# Altium schematic symbol library RP2040_Schematic.SchLib: 12 symbols
Pins are listed as number, name and electrical type; pins without a type are passive.

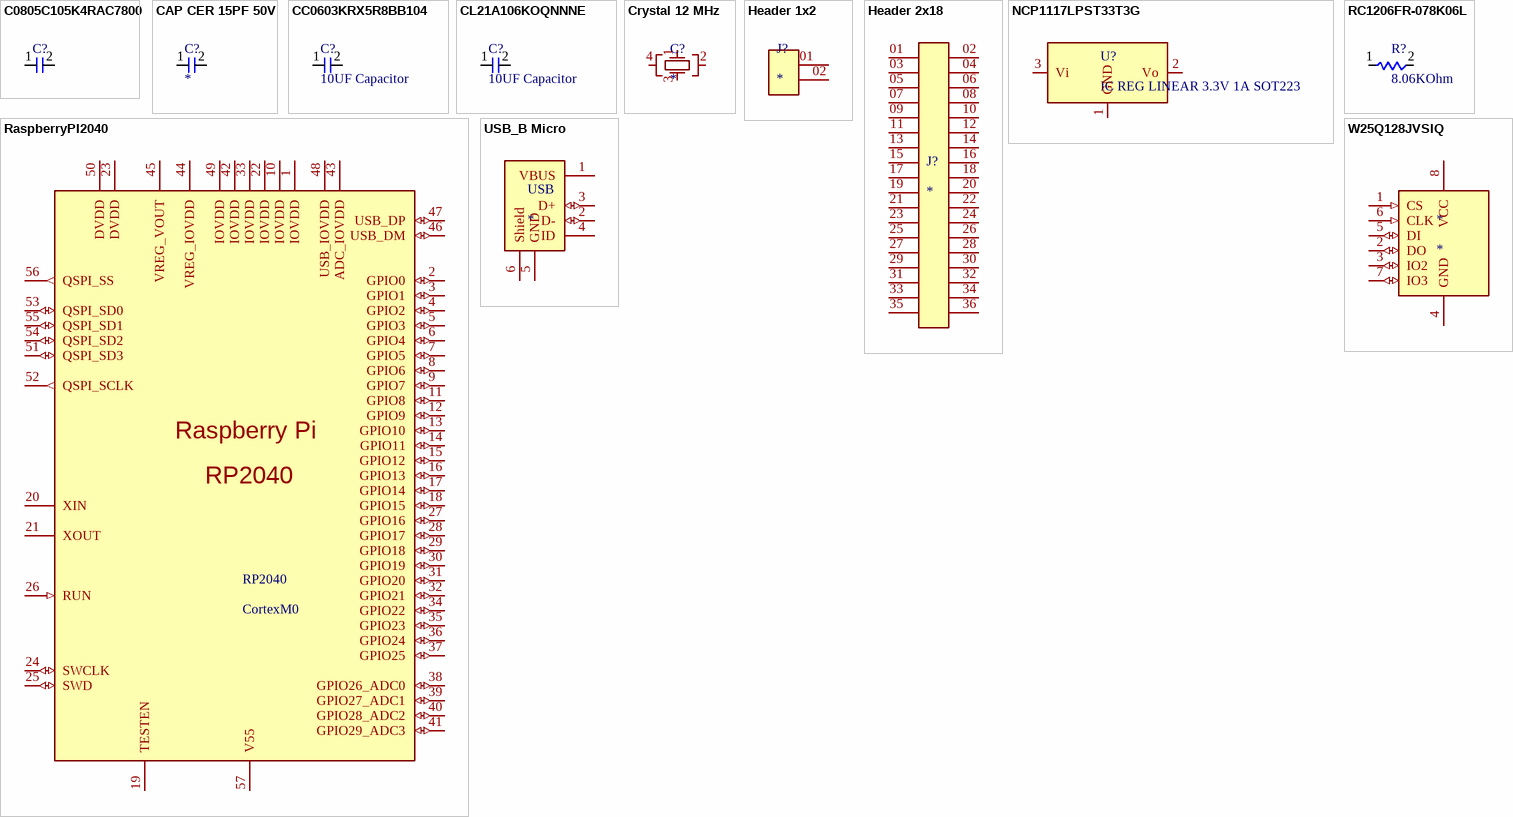
[diagram p0: symbols C0805C105K4RAC7800 to W25Q128JVSIQ]

## C0805C105K4RAC7800
designator C?, comment 1UF Cap  (value not drawn)
1 µF ±10% 16V Ceramic Capacitor X7R 0805 (2012 Metric); Part Number: C0805C105K4RAC7800; Link: https://www.digikey.com/en/products/detail/kemet/C0805C105K4RAC7800/416047; Value: 1UF
footprint C0805C105K4RAC7800 (1 µF ±10% 16V Ceramic Capacitor X7R 0805 (2012 Metric))
pins: 1 Pin 1 "Pin 1 of ceramic capaciitor", 2 Pin 2 "Pin 2 of ceramic capaciitor"

## CAP CER 15PF 50V
designator C?
15 pF ±5% 50V Ceramic Capacitor C0G, NP0 0805 (2012 Metric); Part Number: CC0805JRNPO9BN150; Link: https://www.digikey.com/en/products/detail/yageo/CC0805JRNPO9BN150/302835
footprint CAP CER 15PF 50V (15 pF ±5% 50V Ceramic Capacitor C0G, NP0 0805 (2012 Metric) (https://www.digikey.com/en/products/detail/yageo/CC0805JRNPO9BN150/302835))
pins: 1 Pin 1 "Pin 1 of ceramic capaciitor", 2 Pin 2 "Pin 2 of ceramic capaciitor"

## CC0603KRX5R8BB104
designator C?, comment 10UF Capacitor
100 nF ±10% 25V Ceramic Capacitor X5R 0603 (1608 Metric); Part Number: CL21A106KOQNNNE; Value: 100nF; Link: https://www.digikey.com/en/products/detail/samsung-electro-mechanics/CL21A106KOQNNNE/3886754; Link1: https://www.digikey.com/en/products/detail/yageo/CC0603KRX5R8BB104/20376210?s=N4IgjCBcoEwAwBYCcVQGMoDMCGAbAzgKYA0IA9lANrhxwAEAdgGIgC6pADgC5QgCqDAJZcA8pgCyhbPgCuAJ0IgAvqQC0ANlQgMkLnJklyVEAGYQpGGyUqQlyNTC1GmOmmwdsaYWTlWgA; Parameter 2: *
footprint CC0603KRX5R8BB104 (100 nF ±10% 16V Ceramic Capacitor X5R 0805 (2012 Metric))
pins: 1 Pin 1 "Pin 1 of ceramic capaciitor", 2 Pin 2 "Pin 2 of ceramic capaciitor"

## CL21A106KOQNNNE
designator C?, comment 10UF Capacitor
10 µF ±10% 16V Ceramic Capacitor X5R 0805 (2012 Metric); Part Number: CL21A106KOQNNNE; Link: https://www.digikey.com/en/products/detail/samsung-electro-mechanics/CL21A106KOQNNNE/3886754; Value: 10UF
footprint CL21A106KOQNNNE - duplicate (10 µF ±10% 16V Ceramic Capacitor X5R 0805 (2012 Metric))
pins: 1 Pin 1 "Pin 1 of ceramic capaciitor", 2 Pin 2 "Pin 2 of ceramic capaciitor"

## Crystal 12 MHz
designator C?
12 MHz ±30ppm Crystal 18pF 150 Ohms 4-SMD, No Lead; Part Number: 403C35D12M00000; Link: https://www.digikey.com/en/products/detail/cts-frequency-controls/403C35D12M00000/2292747
footprint Crystal 12 MHz (12 MHz ±30ppm Crystal 18pF 150 Ohms 4-SMD, No Lead)
pins: 1 6, 2, 3, 4 6

## Header 1x2
designator J?
footprint Header 1x2
pins: 01, 02

## Header 2x18
designator J?
footprint Header 2x18
pins: 01, 02, 03, 04, 05, 06, 07, 08, 09, 10, 11, 12, 13, 14, 15, 16, 17, 18, 19, 20, 21, 22, 23, 24, 25, 26, 27, 28, 29, 30, 31, 32, 33, 34, 35, 36

## NCP1117LPST33T3G
designator U?, comment IC REG LINEAR 3.3V 1A SOT223
Linear Voltage Regulator IC Positive Fixed 1 Output 1A SOT-223; Part Number: NCP1117LPST33T3GOSTR-ND; Link: https://www.digikey.com/en/products/detail/onsemi/NCP1117LPST33T3G/2194024
footprint NCP1117LPST33T3G (https://www.digikey.com/en/products/detail/onsemi/NCP1117LPST33T3G/2194024)
pins: 1 GND (power), 2 Vo (power), 3 Vi (power)

## RaspberryPI2040
designator RP2040, comment CortexM0
Microcontrollers connect the world of software to the world of hardware. They allow developers to write software which / interacts with the physical world in the same deterministic, cycle-accurate manner as digital logic. They occupy the / bottom left corner of the price/performance space, outselling their more powerful brethren by a factor of ten to one. / They are the workhorses that power the digital transformation of our world.
footprint RaspberryPI2040 (Design From Datasheet  Page 612 and all Dimensions in mm)
pins: 1 IOVDD (power), 2 GPIO0 (io), 3 GPIO1 (io), 4 GPIO2 (io), 5 GPIO3 (io), 6 GPIO4 (io), 7 GPIO5 (io), 8 GPIO6 (io), 9 GPIO7 (io), 10 IOVDD (power), 11 GPIO8 (io), 12 GPIO9 (io), 13 GPIO10 (io), 14 GPIO11 (io), 15 GPIO12 (io), 16 GPIO13 (io), 17 GPIO14 (io), 18 GPIO15 (io), 19 TESTEN (power), 20 XIN, 21 XOUT, 22 IOVDD (power), 23 DVDD (power), 24 SWCLK (io), 25 SWD (io), 26 RUN (in), 27 GPIO16 (io), 28 GPIO17 (io), 29 GPIO18 (io), 30 GPIO19 (io), 31 GPIO20 (io), 32 GPIO21 (io), 33 IOVDD (power), 34 GPIO22 (io), 35 GPIO23 (io), 36 GPIO24 (io), 37 GPIO25 (io), 38 GPIO26_ADC0 (io), 39 GPIO27_ADC1 (io), 40 GPIO28_ADC2 (io), 41 GPIO29_ADC3 (io), 42 IOVDD (power), 43 ADC_IOVDD (power), 44 VREG_IOVDD (power), 45 VREG_VOUT (power), 46 USB_DM (io), 47 USB_DP (io), 48 USB_IOVDD (power), 49 IOVDD (power), 50 DVDD (power), 51 QSPI_SD3 (io), 52 QSPI_SCLK (out), 53 QSPI_SD0 (io), 54 QSPI_SD2 (io), 55 QSPI_SD1 (io), 56 QSPI_SS (out), 57 V55 (power)
text: Raspberry Pi

## RC1206FR-078K06L
designator R?, comment 8.06KOhm
8.06 kOhms ±1% 0.25W, 1/4W Chip Resistor 1206 (3216 Metric) Moisture Resistant Thick Film; Part Number: RC1206FR-078K06L; Link: https://www.digikey.com/en/products/detail/yageo/RC1206FR-078K06L/729108
footprint RC1206FR-078K06L (8.06 kOhms ±1% 0.25W, 1/4W Chip Resistor 1206 (3216 Metric) Moisture Resistant Thick Film)
pins: 1 Pin 1, 2 pin 2

## USB_B Micro
designator USB
Conn Data USB Micro B w/Flange SMT Bottom Mnt LF | Molex Incorporated 47346-0001; Part Number: 47346-0001; Link: https://www.snapeda.com/parts/47346-0001/Molex/view-part/
footprint USB_B Micro (Conn Data USB Micro B w/Flange SMT Bottom Mnt LF)
pins: 1 VBUS (power), 2 D- (io), 3 D+ (io), 4 ID, 5 GND (power), 6 Shield (power)

## W25Q128JVSIQ
designator *
FLASH - NOR Memory IC 128Mbit SPI - Quad I/O, QPI 133 MHz 8-SOIC; Part Number: W25Q128JVSIQ; Link: https://www.digikey.com/en/products/detail/winbond-electronics/W25Q128JVSIQ/5803943
footprint W25Q128JVSIQ-ND (FLASH - NOR Memory IC 128Mbit SPI - Quad I/O, QPI 133 MHz 8-SOIC)
pins: 1 CS (in), 2 DO (io), 3 IO2 (io), 4 GND (power), 5 DI (io), 6 CLK (in), 7 IO3 (io), 8 VCC (power)